# Altium schematic symbol library Radio_Controller.SchLib: 9 symbols
Pins are listed as number, name and electrical type; pins without a type are passive.

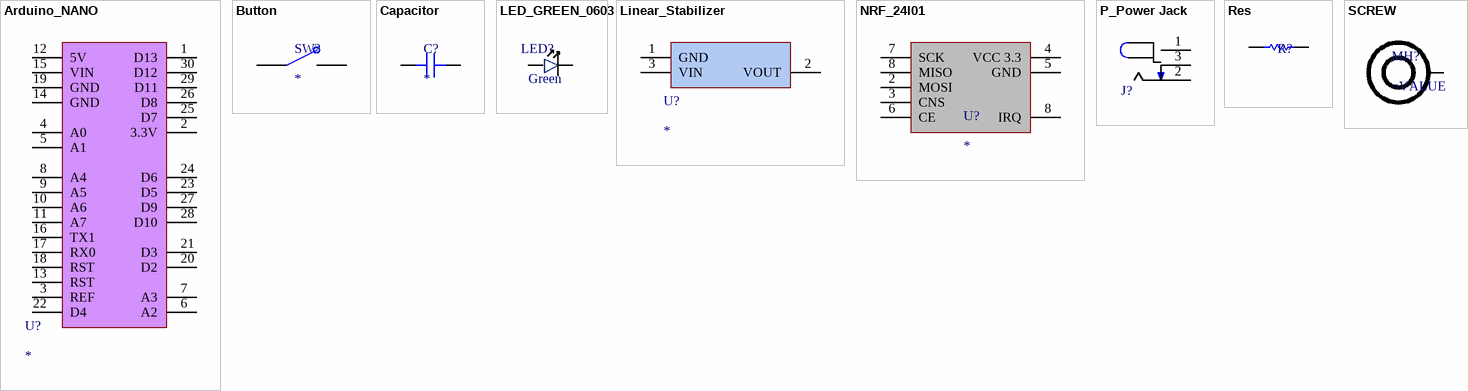
[diagram p0: symbols Arduino_NANO to SCREW]

## Arduino_NANO
designator U?
footprint MODULE_ABX00028
pins: 1 D13, 2 3.3V, 3 REF, 4 A0, 5 A1, 6 A2, 7 A3, 8 A4, 9 A5, 10 A6, 11 A7, 12 5V, 13 RST, 14 GND, 15 VIN, 16 TX1, 17 RX0, 18 RST, 19 GND, 20 D2, 21 D3, 22 D4, 23 D5, 24 D6, 25 D7, 26 D8, 27 D9, 28 D10, 29 D11, 30 D12

## Button
designator SW?
footprint Button
pins: 1, 2

## Capacitor
designator C?
SMT Capacitor; Value: *
footprint CAP 1206 (Chip Resistor, 2-Leads, Body 1.60x0.80mm)
footprint CAP 0603 (Chip Resistor, 2-Leads, Body 1.60x0.80mm)
pins: 1, 2

## LED_GREEN_0603
designator LED?, comment value Green  (hidden comment: 0603Gr)
LIGHT EMITTING DIODES (LED) GREEN 520~535NM 112~258MCD@20MA TOP VIEW 0603 ROHS; MFR Part #: 19-217/GHC-YR1S2/3T; Type: Basic; LCSC Part#: C72043
footprint LED_0603
pins: 1, 2

## Linear_Stabilizer
designator U?
footprint TO-220 (TO254P1035X444X2115-3N))
pins: 1 GND, 2 VOUT, 3 VIN

## NRF_24l01
designator U?
footprint NRF24L01
pins: 2 MOSI, 3 CNS, 4 VCC 3.3, 5 GND, 6 CE, 7 SCK, 8 IRQ, 8 MISO

## P_Power Jack
designator J?, comment Power Jack  (value not drawn)
Power Barrel Connector Jack 2.10mm ID (0.083"), 5.50mm OD (0.217") Through Hole, Right Angle; MFR Part #: PJ-102A; Value: CONN PWR JACK 2X5.5MM SOLDER; Digikey Link: https://www.digikey.com/product-detail/en/PJ-102A/CP-102A-ND/275425/?itemSeq=304982367; LCSC Part#: C136744; Type: Extended
footprint Power_Jack
pins: 1 (power), 2 (power), 3 (power)

## Res
designator R?
Resistor; Ordered by: Subcon; Published: 8-Jun-2000; Revision: July-2002: Re-released for DXP Platform.; Publisher: Altium Limited
footprint RES 0603 (Chip Resistor, 2-Leads, Body 1.60x0.80mm)
pins: 1, 2
2 alternate drawings of the same symbol

## SCREW
designator MH?
footprint SCREW_M3.0 (M3 Screw Close FIt)
pins: 1